# EAGLE library part LTC1858 (library linear_technology)
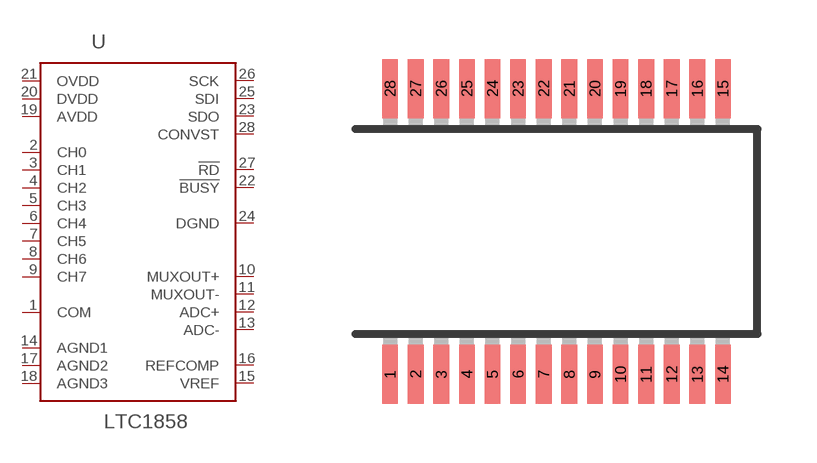
[diagram p0: symbol with the pads of SSOP28; footprint SSOP28]

Designator prefix U

## LTC1858  [SSOP28]
1  COM
2  CH0
3  CH1
4  CH2
5  CH3
6  CH4
7  CH5
8  CH6
9  CH7
10  MUXOUT+
11  MUXOUT-
12  ADC+
13  ADC-
14  AGND1
15  VREF
16  REFCOMP
17  AGND2
18  AGND3
19  AVDD
20  DVDD
21  OVDD
22  !BUSY
23  SDO
24  DGND
25  SDI
26  SCK
27  !RD
28  CONVST

## Footprint SSOP28 (pad centres in mm)
Shrink Small Outline Package package type SS
smd 0.4 x 1.5: 1 -4.225,-3.625; 2 -3.575,-3.625; 3 -2.925,-3.625; 4 -2.275,-3.625; 5 -1.625,-3.625; 6 -0.975,-3.625; 7 -0.325,-3.625; 8 0.325,-3.625; 9 0.975,-3.625; 10 1.625,-3.625; 11 2.275,-3.625; 12 2.925,-3.625; 13 3.575,-3.625; 14 4.225,-3.625; 15 4.225,3.625; 16 3.575,3.625; 17 2.925,3.625; 18 2.275,3.625; 19 1.625,3.625; 20 0.975,3.625; 21 0.325,3.625; 22 -0.325,3.625; 23 -0.975,3.625; 24 -1.625,3.625; 25 -2.275,3.625; 26 -2.925,3.625; 27 -3.575,3.625; 28 -4.225,3.625